# EAGLE library part OTS-16-03 (library OTS_IC_sockets)
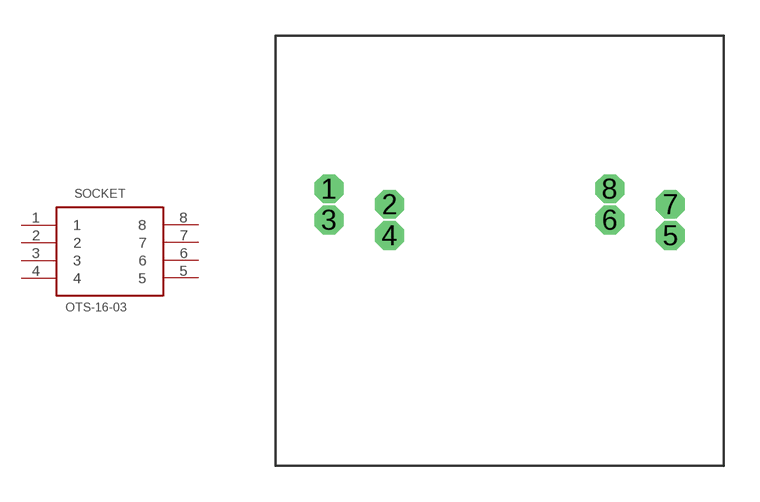
[diagram p0: symbol with the pads of OTS-16-03; footprint OTS-16-03]

Designator prefix SOCKET

## OTS-16-03  [OTS-16-03]
1  1
2  2
3  3
4  4
5  5
6  6
7  7
8  8

## Footprint OTS-16-03 (pad centres in mm)
drill 0.7 octagon: 1 -7.145,2.6; 2 -4.605,1.95; 3 -7.145,1.3; 4 -4.605,0.65; 5 7.145,0.65; 6 4.605,1.3; 7 7.145,1.95; 8 4.605,2.6